# Altium integrated library TI Amplifiers and Linear Operational Amplifier Fully Differential Amplifier.IntLib: 262 symbols (part 2 of 11)
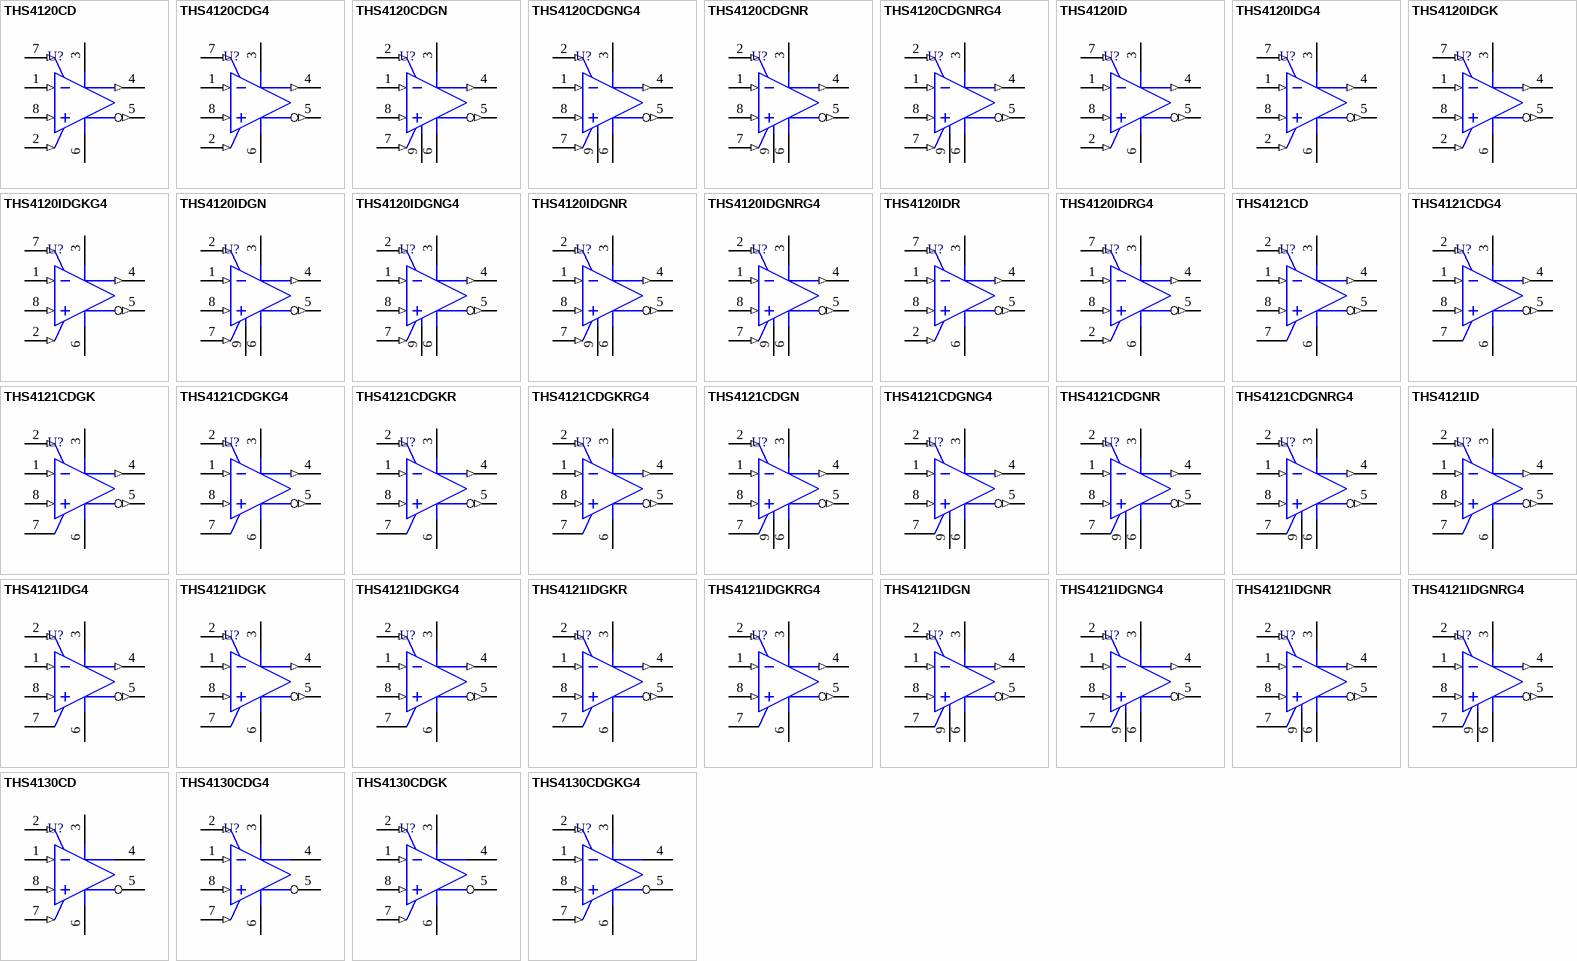
[diagram p8: symbols THS4120CD to THS4130CDGKG4]

## THS4121IDG4
designator U?
100 MHz, 43 V/us, Fully Differential CMOS Amplifier, 3 to 3.5 V, -40 to 85 degC, 8-pin SOIC (D8), Green (RoHS & no Sb/Br); Manufacturer: Texas Instruments; PartNumber: THS4121IDG4; 2nd Harmonic(dBc): 79; 3rd Harmonic(dBc): 93; @ MHz: 1; BW @ Acl(MHz): 100; Iq per channel(Max)(mA): 13.5; Offset Voltage Drift (+/-)(Max)(uV/Degrees Celsius: 25; Settling Time (0.1%)(Typ)(ns): 60; Slew Rate(Typ)(V/us): 55; SubFamily: Fully Differential Amplifier; THD (Fc is 1 MHz)(Typ)(dB): -75; Vio(Max)(mV): 8; Vn at Flatband(Typ)(nV/rtHz): 5.4; Vs(Max)(V): 3.5; Vs(Min)(V): 3; DatasheetVersion: SLOS319D; PackageVersion: 4040047-3/M, 06/2011; PackageReference: D8; PackageDescription: 8-Pin Plastic Small Outline, Body 4.9 x 3.9 mm, Pitch 1.27 mm; Supplier 1: Digi-Key; Supplier Part Number 1: THS4121IDG4-ND; Supplier 2: Newark; Supplier Part Number 2: 14M2281; Supplier 3: Mouser; Supplier Part Number 3: 595-THS4121IDG4; Eco-Plan: Green (RoHS & no Sb/Br); Io(Typ)(mA): 100; Number of Channels: 1; Mounting Technology: Surface Mount; Code_JEDEC: MS-012; ComponentLink1Description: Manufacturer URL; ComponentLink1URL: http://www.ti.com/; ComponentLink2Description: Datasheet; ComponentLink2URL: http://www.ti.com/general/docs/lit/getliterature.tsp?genericPartNumber=THS4121&fileType=pdf; ComponentLink3Description: Package Specification; ComponentLink3URL: http://www.ti.com/litv/pdf/msoi002j
footprint TI-D8_N (SOIC, 8-Leads, Body 4.9x3.9mm, Pitch 1.27mm, IPC Medium Density)
footprint TI-D8_L (SOIC, 8-Leads, Body 4.9x3.9mm, Pitch 1.27mm, IPC High Density)
footprint TI-D8_M (SOIC, 8-Leads, Body 4.9x3.9mm, Pitch 1.27mm, IPC Low Density)
pins: 1 VIN- (in), 2 VOCM (in), 3 VDD (power), 4 VOUT+ (out), 5 VOUT- (out), 6 GND (power), 7 NC, 8 VIN+ (in)

## THS4121IDGK
designator U?
100 MHz, 43 V/us, Fully Differential CMOS Amplifier, 3 to 3.5 V, -40 to 85 degC, 8-pin SOP (DGK8), Green (RoHS & no Sb/Br); Manufacturer: Texas Instruments; PartNumber: THS4121IDGK; 2nd Harmonic(dBc): 79; 3rd Harmonic(dBc): 93; @ MHz: 1; BW @ Acl(MHz): 100; Iq per channel(Max)(mA): 13.5; Offset Voltage Drift (+/-)(Max)(uV/Degrees Celsius: 25; Settling Time (0.1%)(Typ)(ns): 60; Slew Rate(Typ)(V/us): 55; SubFamily: Fully Differential Amplifier; THD (Fc is 1 MHz)(Typ)(dB): -75; Vio(Max)(mV): 8; Vn at Flatband(Typ)(nV/rtHz): 5.4; Vs(Max)(V): 3.5; Vs(Min)(V): 3; DatasheetVersion: SLOS319D; PackageVersion: 4073329/E, 05/2006; PackageReference: DGK8; PackageDescription: 8-Pin Thin Small Outline, Body 3 x 3 mm, Pitch 0.65 mm; Supplier 1: Digi-Key; Supplier Part Number 1: 296-17555-5-ND; Supplier 2: Newark; Supplier Part Number 2: 01J0839; Supplier 3: Mouser; Supplier Part Number 3: 595-THS4121IDGK; Eco-Plan: Green (RoHS & no Sb/Br); Io(Typ)(mA): 100; Number of Channels: 1; Mounting Technology: Surface Mount; Code_JEDEC: MO-187; ComponentLink1Description: Manufacturer URL; ComponentLink1URL: http://www.ti.com/; ComponentLink2Description: Datasheet; ComponentLink2URL: http://www.ti.com/general/docs/lit/getliterature.tsp?genericPartNumber=THS4121&fileType=pdf; ComponentLink3Description: Package Specification; ComponentLink3URL: http://www.ti.com/litv/pdf/mpds028d
footprint TI-DGK8_N (SOP, 8-Leads, Body 3x3mm, Pitch 0.65mm, IPC Medium Density)
footprint TI-DGK8_L (SOP, 8-Leads, Body 3x3mm, Pitch 0.65mm, IPC High Density)
footprint TI-DGK8_M (SOP, 8-Leads, Body 3x3mm, Pitch 0.65mm, IPC Low Density)
pins: 1 VIN- (in), 2 VOCM (in), 3 VDD (power), 4 VOUT+ (out), 5 VOUT- (out), 6 GND (power), 7 NC, 8 VIN+ (in)

## THS4121IDGKG4
designator U?
100 MHz, 43 V/us, Fully Differential CMOS Amplifier, 3 to 3.5 V, -40 to 85 degC, 8-pin SOP (DGK8), Green (RoHS & no Sb/Br); Manufacturer: Texas Instruments; PartNumber: THS4121IDGKG4; 2nd Harmonic(dBc): 79; 3rd Harmonic(dBc): 93; @ MHz: 1; BW @ Acl(MHz): 100; Iq per channel(Max)(mA): 13.5; Offset Voltage Drift (+/-)(Max)(uV/Degrees Celsius: 25; Settling Time (0.1%)(Typ)(ns): 60; Slew Rate(Typ)(V/us): 55; SubFamily: Fully Differential Amplifier; THD (Fc is 1 MHz)(Typ)(dB): -75; Vio(Max)(mV): 8; Vn at Flatband(Typ)(nV/rtHz): 5.4; Vs(Max)(V): 3.5; Vs(Min)(V): 3; DatasheetVersion: SLOS319D; PackageVersion: 4073329/E, 05/2006; PackageReference: DGK8; PackageDescription: 8-Pin Thin Small Outline, Body 3 x 3 mm, Pitch 0.65 mm; Supplier 1: Digi-Key; Supplier Part Number 1: THS4121IDGKG4-ND; Supplier 2: Mouser; Supplier Part Number 2: 595-THS4121IDGKG4; Eco-Plan: Green (RoHS & no Sb/Br); Io(Typ)(mA): 100; Number of Channels: 1; Mounting Technology: Surface Mount; Code_JEDEC: MO-187; ComponentLink1Description: Manufacturer URL; ComponentLink1URL: http://www.ti.com/; ComponentLink2Description: Datasheet; ComponentLink2URL: http://www.ti.com/general/docs/lit/getliterature.tsp?genericPartNumber=THS4121&fileType=pdf; ComponentLink3Description: Package Specification; ComponentLink3URL: http://www.ti.com/litv/pdf/mpds028d
footprint TI-DGK8_N (SOP, 8-Leads, Body 3x3mm, Pitch 0.65mm, IPC Medium Density)
footprint TI-DGK8_L (SOP, 8-Leads, Body 3x3mm, Pitch 0.65mm, IPC High Density)
footprint TI-DGK8_M (SOP, 8-Leads, Body 3x3mm, Pitch 0.65mm, IPC Low Density)
pins: 1 VIN- (in), 2 VOCM (in), 3 VDD (power), 4 VOUT+ (out), 5 VOUT- (out), 6 GND (power), 7 NC, 8 VIN+ (in)

## THS4121IDGKR
designator U?
100 MHz, 43 V/us, Fully Differential CMOS Amplifier, 3 to 3.5 V, -40 to 85 degC, 8-pin SOP (DGK8), Green (RoHS & no Sb/Br); Manufacturer: Texas Instruments; PartNumber: THS4121IDGKR; 2nd Harmonic(dBc): 79; 3rd Harmonic(dBc): 93; @ MHz: 1; BW @ Acl(MHz): 100; Iq per channel(Max)(mA): 13.5; Offset Voltage Drift (+/-)(Max)(uV/Degrees Celsius: 25; Settling Time (0.1%)(Typ)(ns): 60; Slew Rate(Typ)(V/us): 55; SubFamily: Fully Differential Amplifier; THD (Fc is 1 MHz)(Typ)(dB): -75; Vio(Max)(mV): 8; Vn at Flatband(Typ)(nV/rtHz): 5.4; Vs(Max)(V): 3.5; Vs(Min)(V): 3; DatasheetVersion: SLOS319D; PackageVersion: 4073329/E, 05/2006; PackageReference: DGK8; PackageDescription: 8-Pin Thin Small Outline, Body 3 x 3 mm, Pitch 0.65 mm; Supplier 1: Digi-Key; Supplier Part Number 1: THS4121IDGKR-ND; Supplier 2: Newark; Supplier Part Number 2: 01J0840; Supplier 3: Mouser; Supplier Part Number 3: 595-THS4121IDGKR; Eco-Plan: Green (RoHS & no Sb/Br); Io(Typ)(mA): 100; Number of Channels: 1; Mounting Technology: Surface Mount; Code_JEDEC: MO-187; ComponentLink1Description: Manufacturer URL; ComponentLink1URL: http://www.ti.com/; ComponentLink2Description: Datasheet; ComponentLink2URL: http://www.ti.com/general/docs/lit/getliterature.tsp?genericPartNumber=THS4121&fileType=pdf; ComponentLink3Description: Package Specification; ComponentLink3URL: http://www.ti.com/litv/pdf/mpds028d
footprint TI-DGK8_N (SOP, 8-Leads, Body 3x3mm, Pitch 0.65mm, IPC Medium Density)
footprint TI-DGK8_L (SOP, 8-Leads, Body 3x3mm, Pitch 0.65mm, IPC High Density)
footprint TI-DGK8_M (SOP, 8-Leads, Body 3x3mm, Pitch 0.65mm, IPC Low Density)
pins: 1 VIN- (in), 2 VOCM (in), 3 VDD (power), 4 VOUT+ (out), 5 VOUT- (out), 6 GND (power), 7 NC, 8 VIN+ (in)

## THS4121IDGKRG4
designator U?
100 MHz, 43 V/us, Fully Differential CMOS Amplifier, 3 to 3.5 V, -40 to 85 degC, 8-pin SOP (DGK8), Green (RoHS & no Sb/Br); Manufacturer: Texas Instruments; PartNumber: THS4121IDGKRG4; 2nd Harmonic(dBc): 79; 3rd Harmonic(dBc): 93; @ MHz: 1; BW @ Acl(MHz): 100; Iq per channel(Max)(mA): 13.5; Offset Voltage Drift (+/-)(Max)(uV/Degrees Celsius: 25; Settling Time (0.1%)(Typ)(ns): 60; Slew Rate(Typ)(V/us): 55; SubFamily: Fully Differential Amplifier; THD (Fc is 1 MHz)(Typ)(dB): -75; Vio(Max)(mV): 8; Vn at Flatband(Typ)(nV/rtHz): 5.4; Vs(Max)(V): 3.5; Vs(Min)(V): 3; DatasheetVersion: SLOS319D; PackageVersion: 4073329/E, 05/2006; PackageReference: DGK8; PackageDescription: 8-Pin Thin Small Outline, Body 3 x 3 mm, Pitch 0.65 mm; Supplier 1: Digi-Key; Supplier Part Number 1: THS4121IDGKRG4-ND; Supplier 2: Mouser; Supplier Part Number 2: 595-THS4121IDGKRG4; Eco-Plan: Green (RoHS & no Sb/Br); Io(Typ)(mA): 100; Number of Channels: 1; Mounting Technology: Surface Mount; Code_JEDEC: MO-187; ComponentLink1Description: Manufacturer URL; ComponentLink1URL: http://www.ti.com/; ComponentLink2Description: Datasheet; ComponentLink2URL: http://www.ti.com/general/docs/lit/getliterature.tsp?genericPartNumber=THS4121&fileType=pdf; ComponentLink3Description: Package Specification; ComponentLink3URL: http://www.ti.com/litv/pdf/mpds028d
footprint TI-DGK8_N (SOP, 8-Leads, Body 3x3mm, Pitch 0.65mm, IPC Medium Density)
footprint TI-DGK8_L (SOP, 8-Leads, Body 3x3mm, Pitch 0.65mm, IPC High Density)
footprint TI-DGK8_M (SOP, 8-Leads, Body 3x3mm, Pitch 0.65mm, IPC Low Density)
pins: 1 VIN- (in), 2 VOCM (in), 3 VDD (power), 4 VOUT+ (out), 5 VOUT- (out), 6 GND (power), 7 NC, 8 VIN+ (in)

## THS4121IDGN
designator U?
100 MHz, 43 V/us, Fully Differential CMOS Amplifier, 3 to 3.5 V, -40 to 85 degC, 8-pin SOP (DGN8), Green (RoHS & no Sb/Br); Manufacturer: Texas Instruments; PartNumber: THS4121IDGN; 2nd Harmonic(dBc): 79; 3rd Harmonic(dBc): 93; @ MHz: 1; BW @ Acl(MHz): 100; Iq per channel(Max)(mA): 13.5; Offset Voltage Drift (+/-)(Max)(uV/Degrees Celsius: 25; Settling Time (0.1%)(Typ)(ns): 60; Slew Rate(Typ)(V/us): 55; SubFamily: Fully Differential Amplifier; THD (Fc is 1 MHz)(Typ)(dB): -75; Vio(Max)(mV): 8; Vn at Flatband(Typ)(nV/rtHz): 5.4; Vs(Max)(V): 3.5; Vs(Min)(V): 3; DatasheetVersion: SLOS319D; PackageVersion: 4073271/F, 05/2011; PackageReference: DGN8-1760X1425TP; PackageDescription: 8-Pin Plastic Small Outline, Body 3 x 3 mm, Pitch 0.65 mm; Supplier 1: Digi-Key; Supplier Part Number 1: THS4121IDGN-ND; Supplier 2: Mouser; Supplier Part Number 2: 595-THS4121IDGN; Eco-Plan: Green (RoHS & no Sb/Br); Io(Typ)(mA): 100; Number of Channels: 1; Mounting Technology: Surface Mount; Code_JEDEC: MO-187; ComponentLink1Description: Manufacturer URL; ComponentLink1URL: http://www.ti.com/; ComponentLink2Description: Datasheet; ComponentLink2URL: http://www.ti.com/general/docs/lit/getliterature.tsp?genericPartNumber=THS4121&fileType=pdf; ComponentLink3Description: Package Specification; ComponentLink3URL: http://www.ti.com/litv/pdf/mpds046e
footprint TI-DGN8-1760X1425TP_N (SOP, 8-Leads, Body 3x3mm, Pitch 0.65mm, Thermal Pad 1.76x1.425mm, IPC Medium Density)
footprint TI-DGN8-1760X1425TP_L (SOP, 8-Leads, Body 3x3mm, Pitch 0.65mm, Thermal Pad 1.76x1.425mm, IPC High Density)
footprint TI-DGN8-1760X1425TP_M (SOP, 8-Leads, Body 3x3mm, Pitch 0.65mm, Thermal Pad 1.76 x 1.425 mm, IPC Low Density)
pins: 1 VIN- (in), 2 VOCM (in), 3 VDD (power), 4 VOUT+ (out), 5 VOUT- (out), 6 GND (power), 7 NC, 8 VIN+ (in), 9 EP

## THS4121IDGNG4
designator U?
100 MHz, 43 V/us, Fully Differential CMOS Amplifier, 3 to 3.5 V, -40 to 85 degC, 8-pin SOP (DGN8), Green (RoHS & no Sb/Br); Manufacturer: Texas Instruments; PartNumber: THS4121IDGNG4; 2nd Harmonic(dBc): 79; 3rd Harmonic(dBc): 93; @ MHz: 1; BW @ Acl(MHz): 100; Iq per channel(Max)(mA): 13.5; Offset Voltage Drift (+/-)(Max)(uV/Degrees Celsius: 25; Settling Time (0.1%)(Typ)(ns): 60; Slew Rate(Typ)(V/us): 55; SubFamily: Fully Differential Amplifier; THD (Fc is 1 MHz)(Typ)(dB): -75; Vio(Max)(mV): 8; Vn at Flatband(Typ)(nV/rtHz): 5.4; Vs(Max)(V): 3.5; Vs(Min)(V): 3; DatasheetVersion: SLOS319D; PackageVersion: 4073271/F, 05/2011; PackageReference: DGN8-1760X1425TP; PackageDescription: 8-Pin Plastic Small Outline, Body 3 x 3 mm, Pitch 0.65 mm; Supplier 1: Digi-Key; Supplier Part Number 1: THS4121IDGNG4-ND; Supplier 2: Mouser; Supplier Part Number 2: 595-THS4121IDGNG4; Eco-Plan: Green (RoHS & no Sb/Br); Io(Typ)(mA): 100; Number of Channels: 1; Mounting Technology: Surface Mount; Code_JEDEC: MO-187; ComponentLink1Description: Manufacturer URL; ComponentLink1URL: http://www.ti.com/; ComponentLink2Description: Datasheet; ComponentLink2URL: http://www.ti.com/general/docs/lit/getliterature.tsp?genericPartNumber=THS4121&fileType=pdf; ComponentLink3Description: Package Specification; ComponentLink3URL: http://www.ti.com/litv/pdf/mpds046e
footprint TI-DGN8-1760X1425TP_N (SOP, 8-Leads, Body 3x3mm, Pitch 0.65mm, Thermal Pad 1.76x1.425mm, IPC Medium Density)
footprint TI-DGN8-1760X1425TP_L (SOP, 8-Leads, Body 3x3mm, Pitch 0.65mm, Thermal Pad 1.76x1.425mm, IPC High Density)
footprint TI-DGN8-1760X1425TP_M (SOP, 8-Leads, Body 3x3mm, Pitch 0.65mm, Thermal Pad 1.76 x 1.425 mm, IPC Low Density)
pins: 1 VIN- (in), 2 VOCM (in), 3 VDD (power), 4 VOUT+ (out), 5 VOUT- (out), 6 GND (power), 7 NC, 8 VIN+ (in), 9 EP

## THS4121IDGNR
designator U?
100 MHz, 43 V/us, Fully Differential CMOS Amplifier, 3 to 3.5 V, -40 to 85 degC, 8-pin SOP (DGN8), Green (RoHS & no Sb/Br); Manufacturer: Texas Instruments; PartNumber: THS4121IDGNR; 2nd Harmonic(dBc): 79; 3rd Harmonic(dBc): 93; @ MHz: 1; BW @ Acl(MHz): 100; Iq per channel(Max)(mA): 13.5; Offset Voltage Drift (+/-)(Max)(uV/Degrees Celsius: 25; Settling Time (0.1%)(Typ)(ns): 60; Slew Rate(Typ)(V/us): 55; SubFamily: Fully Differential Amplifier; THD (Fc is 1 MHz)(Typ)(dB): -75; Vio(Max)(mV): 8; Vn at Flatband(Typ)(nV/rtHz): 5.4; Vs(Max)(V): 3.5; Vs(Min)(V): 3; DatasheetVersion: SLOS319D; PackageVersion: 4073271/F, 05/2011; PackageReference: DGN8-1760X1425TP; PackageDescription: 8-Pin Plastic Small Outline, Body 3 x 3 mm, Pitch 0.65 mm; Supplier 1: Digi-Key; Supplier Part Number 1: 296-13343-2-ND; Supplier 2: Digi-Key; Supplier Part Number 2: 296-13343-1-ND; Supplier 3: Digi-Key; Supplier Part Number 3: 296-13343-6-ND; Supplier 4: Newark; Supplier Part Number 4: 76C6400; Supplier 5: Mouser; Supplier Part Number 5: 595-THS4121IDGNR; Eco-Plan: Green (RoHS & no Sb/Br); Io(Typ)(mA): 100; Number of Channels: 1; Mounting Technology: Surface Mount; Code_JEDEC: MO-187; ComponentLink1Description: Manufacturer URL; ComponentLink1URL: http://www.ti.com/; ComponentLink2Description: Datasheet; ComponentLink2URL: http://www.ti.com/general/docs/lit/getliterature.tsp?genericPartNumber=THS4121&fileType=pdf; ComponentLink3Description: Package Specification; ComponentLink3URL: http://www.ti.com/litv/pdf/mpds046e
footprint TI-DGN8-1760X1425TP_N (SOP, 8-Leads, Body 3x3mm, Pitch 0.65mm, Thermal Pad 1.76x1.425mm, IPC Medium Density)
footprint TI-DGN8-1760X1425TP_L (SOP, 8-Leads, Body 3x3mm, Pitch 0.65mm, Thermal Pad 1.76x1.425mm, IPC High Density)
footprint TI-DGN8-1760X1425TP_M (SOP, 8-Leads, Body 3x3mm, Pitch 0.65mm, Thermal Pad 1.76 x 1.425 mm, IPC Low Density)
pins: 1 VIN- (in), 2 VOCM (in), 3 VDD (power), 4 VOUT+ (out), 5 VOUT- (out), 6 GND (power), 7 NC, 8 VIN+ (in), 9 EP

## THS4121IDGNRG4
designator U?
100 MHz, 43 V/us, Fully Differential CMOS Amplifier, 3 to 3.5 V, -40 to 85 degC, 8-pin SOP (DGN8), Green (RoHS & no Sb/Br); Manufacturer: Texas Instruments; PartNumber: THS4121IDGNRG4; 2nd Harmonic(dBc): 79; 3rd Harmonic(dBc): 93; @ MHz: 1; BW @ Acl(MHz): 100; Iq per channel(Max)(mA): 13.5; Offset Voltage Drift (+/-)(Max)(uV/Degrees Celsius: 25; Settling Time (0.1%)(Typ)(ns): 60; Slew Rate(Typ)(V/us): 55; SubFamily: Fully Differential Amplifier; THD (Fc is 1 MHz)(Typ)(dB): -75; Vio(Max)(mV): 8; Vn at Flatband(Typ)(nV/rtHz): 5.4; Vs(Max)(V): 3.5; Vs(Min)(V): 3; DatasheetVersion: SLOS319D; PackageVersion: 4073271/F, 05/2011; PackageReference: DGN8-1760X1425TP; PackageDescription: 8-Pin Plastic Small Outline, Body 3 x 3 mm, Pitch 0.65 mm; Supplier 1: Digi-Key; Supplier Part Number 1: THS4121IDGNRG4-ND; Supplier 2: Mouser; Supplier Part Number 2: 595-THS4121IDGNRG4; Eco-Plan: Green (RoHS & no Sb/Br); Io(Typ)(mA): 100; Number of Channels: 1; Mounting Technology: Surface Mount; Code_JEDEC: MO-187; ComponentLink1Description: Manufacturer URL; ComponentLink1URL: http://www.ti.com/; ComponentLink2Description: Datasheet; ComponentLink2URL: http://www.ti.com/general/docs/lit/getliterature.tsp?genericPartNumber=THS4121&fileType=pdf; ComponentLink3Description: Package Specification; ComponentLink3URL: http://www.ti.com/litv/pdf/mpds046e
footprint TI-DGN8-1760X1425TP_N (SOP, 8-Leads, Body 3x3mm, Pitch 0.65mm, Thermal Pad 1.76x1.425mm, IPC Medium Density)
footprint TI-DGN8-1760X1425TP_L (SOP, 8-Leads, Body 3x3mm, Pitch 0.65mm, Thermal Pad 1.76x1.425mm, IPC High Density)
footprint TI-DGN8-1760X1425TP_M (SOP, 8-Leads, Body 3x3mm, Pitch 0.65mm, Thermal Pad 1.76 x 1.425 mm, IPC Low Density)
pins: 1 VIN- (in), 2 VOCM (in), 3 VDD (power), 4 VOUT+ (out), 5 VOUT- (out), 6 GND (power), 7 NC, 8 VIN+ (in), 9 EP

## THS4130CD
designator U?
Fully Differential Input / Output Low Noise Amplifier with Shutdown, 5 to 30 V, 0 to 70 degC, 8-pin SOIC (D8), Green (RoHS & no Sb/Br); Manufacturer: Texas Instruments; PartNumber: THS4130CD; 2nd Harmonic(dBc): 88; 3rd Harmonic(dBc): 82; @ MHz: 1; BW @ Acl(MHz): 150; Io(Typ)(mA): 85; Iq per channel(Max)(mA): 16; Offset Voltage Drift (+/-)(Max)(uV/Degrees Celsius: 4.5; Settling Time (0.1%)(Typ)(ns): 78; Slew Rate(Typ)(V/us): 52; SubFamily: Fully Differential Amplifier; THD (Fc is 1 MHz)(Typ)(dB): -80; Vio(Max)(mV): 2; Vn at Flatband(Typ)(nV/rtHz): 1.3; Vs(Max)(V): 30; Vs(Min)(V): 5; DatasheetVersion: SLOS318H; PackageVersion: 4040047-3/M, 06/2011; PackageReference: D8; PackageDescription: 8-Pin Plastic Small Outline, Body 4.9 x 3.9 mm, Pitch 1.27 mm; Supplier 1: Digi-Key; Supplier Part Number 1: 296-28162-ND; Supplier 2: Farnell; Supplier Part Number 2: 1459436; Supplier 3: Newark; Supplier Part Number 3: 62M0365; Supplier 4: Mouser; Supplier Part Number 4: 595-THS4130CD; Eco-Plan: Green (RoHS & no Sb/Br); Number of Channels: 1; Mounting Technology: Surface Mount; Code_JEDEC: MS-012; ComponentLink1Description: Manufacturer URL; ComponentLink1URL: http://www.ti.com/; ComponentLink2Description: Datasheet; ComponentLink2URL: http://www.ti.com/general/docs/lit/getliterature.tsp?genericPartNumber=THS4130&fileType=pdf; ComponentLink3Description: Package Specification; ComponentLink3URL: http://www.ti.com/litv/pdf/msoi002j
footprint TI-D8_N (SOIC, 8-Leads, Body 4.9x3.9mm, Pitch 1.27mm, IPC Medium Density)
footprint TI-D8_L (SOIC, 8-Leads, Body 4.9x3.9mm, Pitch 1.27mm, IPC High Density)
footprint TI-D8_M (SOIC, 8-Leads, Body 4.9x3.9mm, Pitch 1.27mm, IPC Low Density)
pins: 1 VIN- (in), 2 VOCM (in), 3 VCC+ (power), 4 VOUT+ (hiz), 5 VOUT- (hiz), 6 VCC- (power), 7 ~{PD} (in), 8 VIN+ (in)

## THS4130CDG4
designator U?
Fully Differential Input / Output Low Noise Amplifier with Shutdown, 5 to 30 V, 0 to 70 degC, 8-pin SOIC (D8), Green (RoHS & no Sb/Br); Manufacturer: Texas Instruments; PartNumber: THS4130CDG4; 2nd Harmonic(dBc): 88; 3rd Harmonic(dBc): 82; @ MHz: 1; BW @ Acl(MHz): 150; Io(Typ)(mA): 85; Iq per channel(Max)(mA): 16; Offset Voltage Drift (+/-)(Max)(uV/Degrees Celsius: 4.5; Settling Time (0.1%)(Typ)(ns): 78; Slew Rate(Typ)(V/us): 52; SubFamily: Fully Differential Amplifier; THD (Fc is 1 MHz)(Typ)(dB): -80; Vio(Max)(mV): 2; Vn at Flatband(Typ)(nV/rtHz): 1.3; Vs(Max)(V): 30; Vs(Min)(V): 5; DatasheetVersion: SLOS318H; PackageVersion: 4040047-3/M, 06/2011; PackageReference: D8; PackageDescription: 8-Pin Plastic Small Outline, Body 4.9 x 3.9 mm, Pitch 1.27 mm; Supplier 1: Digi-Key; Supplier Part Number 1: THS4130CDG4-ND; Supplier 2: Newark; Supplier Part Number 2: 54K0757; Supplier 3: Mouser; Supplier Part Number 3: 595-THS4130CDG4; Eco-Plan: Green (RoHS & no Sb/Br); Number of Channels: 1; Mounting Technology: Surface Mount; Code_JEDEC: MS-012; ComponentLink1Description: Manufacturer URL; ComponentLink1URL: http://www.ti.com/; ComponentLink2Description: Datasheet; ComponentLink2URL: http://www.ti.com/general/docs/lit/getliterature.tsp?genericPartNumber=THS4130&fileType=pdf; ComponentLink3Description: Package Specification; ComponentLink3URL: http://www.ti.com/litv/pdf/msoi002j
footprint TI-D8_N (SOIC, 8-Leads, Body 4.9x3.9mm, Pitch 1.27mm, IPC Medium Density)
footprint TI-D8_L (SOIC, 8-Leads, Body 4.9x3.9mm, Pitch 1.27mm, IPC High Density)
footprint TI-D8_M (SOIC, 8-Leads, Body 4.9x3.9mm, Pitch 1.27mm, IPC Low Density)
pins: 1 VIN- (in), 2 VOCM (in), 3 VCC+ (power), 4 VOUT+ (hiz), 5 VOUT- (hiz), 6 VCC- (power), 7 ~{PD} (in), 8 VIN+ (in)

## THS4130CDGK
designator U?
Fully Differential Input / Output Low Noise Amplifier with Shutdown, 5 to 30 V, 0 to 70 degC, 8-pin SOP (DGK8), Green (RoHS & no Sb/Br); Manufacturer: Texas Instruments; PartNumber: THS4130CDGK; 2nd Harmonic(dBc): 88; 3rd Harmonic(dBc): 82; @ MHz: 1; BW @ Acl(MHz): 150; Io(Typ)(mA): 85; Iq per channel(Max)(mA): 16; Offset Voltage Drift (+/-)(Max)(uV/Degrees Celsius: 4.5; Settling Time (0.1%)(Typ)(ns): 78; Slew Rate(Typ)(V/us): 52; SubFamily: Fully Differential Amplifier; THD (Fc is 1 MHz)(Typ)(dB): -80; Vio(Max)(mV): 2; Vn at Flatband(Typ)(nV/rtHz): 1.3; Vs(Max)(V): 30; Vs(Min)(V): 5; DatasheetVersion: SLOS318H; PackageVersion: 4073329/E, 05/2006; PackageReference: DGK8; PackageDescription: 8-Pin Thin Small Outline, Body 3 x 3 mm, Pitch 0.65 mm; Supplier 1: Digi-Key; Supplier Part Number 1: 296-34214-5-ND; Supplier 2: Newark; Supplier Part Number 2: 01J0841; Supplier 3: Mouser; Supplier Part Number 3: 595-THS4130CDGK; Eco-Plan: Green (RoHS & no Sb/Br); Number of Channels: 1; Mounting Technology: Surface Mount; Code_JEDEC: MO-187; ComponentLink1Description: Manufacturer URL; ComponentLink1URL: http://www.ti.com/; ComponentLink2Description: Datasheet; ComponentLink2URL: http://www.ti.com/general/docs/lit/getliterature.tsp?genericPartNumber=THS4130&fileType=pdf; ComponentLink3Description: Package Specification; ComponentLink3URL: http://www.ti.com/litv/pdf/mpds028d
footprint TI-DGK8_N (SOP, 8-Leads, Body 3x3mm, Pitch 0.65mm, IPC Medium Density)
footprint TI-DGK8_L (SOP, 8-Leads, Body 3x3mm, Pitch 0.65mm, IPC High Density)
footprint TI-DGK8_M (SOP, 8-Leads, Body 3x3mm, Pitch 0.65mm, IPC Low Density)
pins: 1 VIN- (in), 2 VOCM (in), 3 VCC+ (power), 4 VOUT+ (hiz), 5 VOUT- (hiz), 6 VCC- (power), 7 ~{PD} (in), 8 VIN+ (in)

## THS4130CDGKG4
designator U?
Fully Differential Input / Output Low Noise Amplifier with Shutdown, 5 to 30 V, 0 to 70 degC, 8-pin SOP (DGK8), Green (RoHS & no Sb/Br); Manufacturer: Texas Instruments; PartNumber: THS4130CDGKG4; 2nd Harmonic(dBc): 88; 3rd Harmonic(dBc): 82; @ MHz: 1; BW @ Acl(MHz): 150; Io(Typ)(mA): 85; Iq per channel(Max)(mA): 16; Offset Voltage Drift (+/-)(Max)(uV/Degrees Celsius: 4.5; Settling Time (0.1%)(Typ)(ns): 78; Slew Rate(Typ)(V/us): 52; SubFamily: Fully Differential Amplifier; THD (Fc is 1 MHz)(Typ)(dB): -80; Vio(Max)(mV): 2; Vn at Flatband(Typ)(nV/rtHz): 1.3; Vs(Max)(V): 30; Vs(Min)(V): 5; DatasheetVersion: SLOS318H; PackageVersion: 4073329/E, 05/2006; PackageReference: DGK8; PackageDescription: 8-Pin Thin Small Outline, Body 3 x 3 mm, Pitch 0.65 mm; Supplier 1: Digi-Key; Supplier Part Number 1: THS4130CDGKG4-ND; Supplier 2: Mouser; Supplier Part Number 2: 595-THS4130CDGKG4; Eco-Plan: Green (RoHS & no Sb/Br); Number of Channels: 1; Mounting Technology: Surface Mount; Code_JEDEC: MO-187; ComponentLink1Description: Manufacturer URL; ComponentLink1URL: http://www.ti.com/; ComponentLink2Description: Datasheet; ComponentLink2URL: http://www.ti.com/general/docs/lit/getliterature.tsp?genericPartNumber=THS4130&fileType=pdf; ComponentLink3Description: Package Specification; ComponentLink3URL: http://www.ti.com/litv/pdf/mpds028d
footprint TI-DGK8_N (SOP, 8-Leads, Body 3x3mm, Pitch 0.65mm, IPC Medium Density)
footprint TI-DGK8_L (SOP, 8-Leads, Body 3x3mm, Pitch 0.65mm, IPC High Density)
footprint TI-DGK8_M (SOP, 8-Leads, Body 3x3mm, Pitch 0.65mm, IPC Low Density)
pins: 1 VIN- (in), 2 VOCM (in), 3 VCC+ (power), 4 VOUT+ (hiz), 5 VOUT- (hiz), 6 VCC- (power), 7 ~{PD} (in), 8 VIN+ (in)

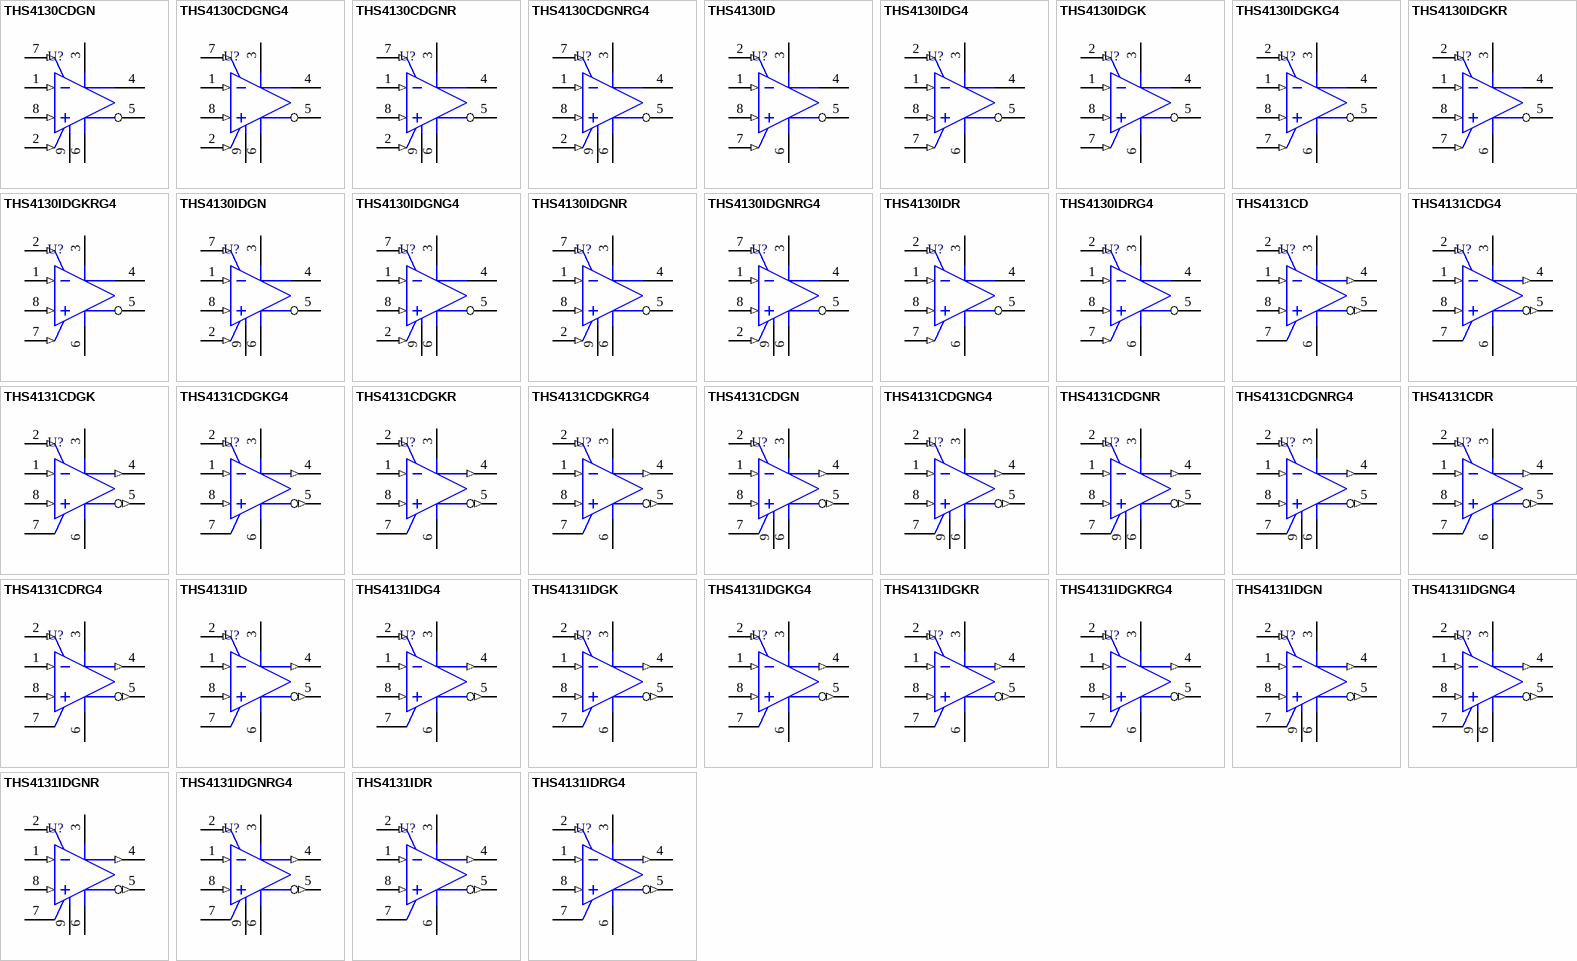
[diagram p1: symbols THS4130CDGN to THS4131IDRG4]

## THS4130CDGN
designator U?
Fully Differential Input / Output Low Noise Amplifier with Shutdown, 5 to 30 V, 0 to 70 degC, 8-pin SOP (DGN8), Green (RoHS & no Sb/Br); Manufacturer: Texas Instruments; PartNumber: THS4130CDGN; 2nd Harmonic(dBc): 88; 3rd Harmonic(dBc): 82; @ MHz: 1; BW @ Acl(MHz): 150; Io(Typ)(mA): 85; Iq per channel(Max)(mA): 16; Offset Voltage Drift (+/-)(Max)(uV/Degrees Celsius: 4.5; Settling Time (0.1%)(Typ)(ns): 78; Slew Rate(Typ)(V/us): 52; SubFamily: Fully Differential Amplifier; THD (Fc is 1 MHz)(Typ)(dB): -80; Vio(Max)(mV): 2; Vn at Flatband(Typ)(nV/rtHz): 1.3; Vs(Max)(V): 30; Vs(Min)(V): 5; DatasheetVersion: SLOS318H; PackageVersion: 4073271/F, 05/2011; PackageReference: DGN8-1760X1425TP; PackageDescription: 8-Pin Plastic Small Outline, Body 3 x 3 mm, Pitch 0.65 mm; Supplier 1: Digi-Key; Supplier Part Number 1: 296-34215-5-ND; Supplier 2: Newark; Supplier Part Number 2: 76C6402; Supplier 3: Mouser; Supplier Part Number 3: 595-THS4130CDGN; Eco-Plan: Green (RoHS & no Sb/Br); Number of Channels: 1; Mounting Technology: Surface Mount; Code_JEDEC: MO-187; ComponentLink1Description: Manufacturer URL; ComponentLink1URL: http://www.ti.com/; ComponentLink2Description: Datasheet; ComponentLink2URL: http://www.ti.com/general/docs/lit/getliterature.tsp?genericPartNumber=THS4130&fileType=pdf; ComponentLink3Description: Package Specification; ComponentLink3URL: http://www.ti.com/litv/pdf/mpds046e
footprint TI-DGN8-1760X1425TP_N (SOP, 8-Leads, Body 3x3mm, Pitch 0.65mm, Thermal Pad 1.76x1.425mm, IPC Medium Density)
footprint TI-DGN8-1760X1425TP_L (SOP, 8-Leads, Body 3x3mm, Pitch 0.65mm, Thermal Pad 1.76x1.425mm, IPC High Density)
footprint TI-DGN8-1760X1425TP_M (SOP, 8-Leads, Body 3x3mm, Pitch 0.65mm, Thermal Pad 1.76 x 1.425 mm, IPC Low Density)
pins: 1 VIN- (in), 2 VOCM (in), 3 VCC+ (power), 4 VOUT+ (hiz), 5 VOUT- (hiz), 6 VCC- (power), 7 ~{PD} (in), 8 VIN+ (in), 9 EP

## THS4130CDGNG4
designator U?
Fully Differential Input / Output Low Noise Amplifier with Shutdown, 5 to 30 V, 0 to 70 degC, 8-pin SOP (DGN8), Green (RoHS & no Sb/Br); Manufacturer: Texas Instruments; PartNumber: THS4130CDGNG4; 2nd Harmonic(dBc): 88; 3rd Harmonic(dBc): 82; @ MHz: 1; BW @ Acl(MHz): 150; Io(Typ)(mA): 85; Iq per channel(Max)(mA): 16; Offset Voltage Drift (+/-)(Max)(uV/Degrees Celsius: 4.5; Settling Time (0.1%)(Typ)(ns): 78; Slew Rate(Typ)(V/us): 52; SubFamily: Fully Differential Amplifier; THD (Fc is 1 MHz)(Typ)(dB): -80; Vio(Max)(mV): 2; Vn at Flatband(Typ)(nV/rtHz): 1.3; Vs(Max)(V): 30; Vs(Min)(V): 5; DatasheetVersion: SLOS318H; PackageVersion: 4073271/F, 05/2011; PackageReference: DGN8-1760X1425TP; PackageDescription: 8-Pin Plastic Small Outline, Body 3 x 3 mm, Pitch 0.65 mm; Supplier 1: Digi-Key; Supplier Part Number 1: THS4130CDGNG4-ND; Supplier 2: Mouser; Supplier Part Number 2: 595-THS4130CDGNG4; Eco-Plan: Green (RoHS & no Sb/Br); Number of Channels: 1; Mounting Technology: Surface Mount; Code_JEDEC: MO-187; ComponentLink1Description: Manufacturer URL; ComponentLink1URL: http://www.ti.com/; ComponentLink2Description: Datasheet; ComponentLink2URL: http://www.ti.com/general/docs/lit/getliterature.tsp?genericPartNumber=THS4130&fileType=pdf; ComponentLink3Description: Package Specification; ComponentLink3URL: http://www.ti.com/litv/pdf/mpds046e
footprint TI-DGN8-1760X1425TP_N (SOP, 8-Leads, Body 3x3mm, Pitch 0.65mm, Thermal Pad 1.76x1.425mm, IPC Medium Density)
footprint TI-DGN8-1760X1425TP_L (SOP, 8-Leads, Body 3x3mm, Pitch 0.65mm, Thermal Pad 1.76x1.425mm, IPC High Density)
footprint TI-DGN8-1760X1425TP_M (SOP, 8-Leads, Body 3x3mm, Pitch 0.65mm, Thermal Pad 1.76 x 1.425 mm, IPC Low Density)
pins: 1 VIN- (in), 2 VOCM (in), 3 VCC+ (power), 4 VOUT+ (hiz), 5 VOUT- (hiz), 6 VCC- (power), 7 ~{PD} (in), 8 VIN+ (in), 9 EP

## THS4130CDGNR
designator U?
Fully Differential Input / Output Low Noise Amplifier with Shutdown, 5 to 30 V, 0 to 70 degC, 8-pin SOP (DGN8), Green (RoHS & no Sb/Br); Manufacturer: Texas Instruments; PartNumber: THS4130CDGNR; 2nd Harmonic(dBc): 88; 3rd Harmonic(dBc): 82; @ MHz: 1; BW @ Acl(MHz): 150; Io(Typ)(mA): 85; Iq per channel(Max)(mA): 16; Offset Voltage Drift (+/-)(Max)(uV/Degrees Celsius: 4.5; Settling Time (0.1%)(Typ)(ns): 78; Slew Rate(Typ)(V/us): 52; SubFamily: Fully Differential Amplifier; THD (Fc is 1 MHz)(Typ)(dB): -80; Vio(Max)(mV): 2; Vn at Flatband(Typ)(nV/rtHz): 1.3; Vs(Max)(V): 30; Vs(Min)(V): 5; DatasheetVersion: SLOS318H; PackageVersion: 4073271/F, 05/2011; PackageReference: DGN8-1760X1425TP; PackageDescription: 8-Pin Plastic Small Outline, Body 3 x 3 mm, Pitch 0.65 mm; Supplier 1: Digi-Key; Supplier Part Number 1: THS4130CDGNR-ND; Supplier 2: Mouser; Supplier Part Number 2: 595-THS4130CDGNR; Eco-Plan: Green (RoHS & no Sb/Br); Number of Channels: 1; Mounting Technology: Surface Mount; Code_JEDEC: MO-187; ComponentLink1Description: Manufacturer URL; ComponentLink1URL: http://www.ti.com/; ComponentLink2Description: Datasheet; ComponentLink2URL: http://www.ti.com/general/docs/lit/getliterature.tsp?genericPartNumber=THS4130&fileType=pdf; ComponentLink3Description: Package Specification; ComponentLink3URL: http://www.ti.com/litv/pdf/mpds046e
footprint TI-DGN8-1760X1425TP_N (SOP, 8-Leads, Body 3x3mm, Pitch 0.65mm, Thermal Pad 1.76x1.425mm, IPC Medium Density)
footprint TI-DGN8-1760X1425TP_L (SOP, 8-Leads, Body 3x3mm, Pitch 0.65mm, Thermal Pad 1.76x1.425mm, IPC High Density)
footprint TI-DGN8-1760X1425TP_M (SOP, 8-Leads, Body 3x3mm, Pitch 0.65mm, Thermal Pad 1.76 x 1.425 mm, IPC Low Density)
pins: 1 VIN- (in), 2 VOCM (in), 3 VCC+ (power), 4 VOUT+ (hiz), 5 VOUT- (hiz), 6 VCC- (power), 7 ~{PD} (in), 8 VIN+ (in), 9 EP

## THS4130CDGNRG4
designator U?
Fully Differential Input / Output Low Noise Amplifier with Shutdown, 5 to 30 V, 0 to 70 degC, 8-pin SOP (DGN8), Green (RoHS & no Sb/Br); Manufacturer: Texas Instruments; PartNumber: THS4130CDGNRG4; 2nd Harmonic(dBc): 88; 3rd Harmonic(dBc): 82; @ MHz: 1; BW @ Acl(MHz): 150; Io(Typ)(mA): 85; Iq per channel(Max)(mA): 16; Offset Voltage Drift (+/-)(Max)(uV/Degrees Celsius: 4.5; Settling Time (0.1%)(Typ)(ns): 78; Slew Rate(Typ)(V/us): 52; SubFamily: Fully Differential Amplifier; THD (Fc is 1 MHz)(Typ)(dB): -80; Vio(Max)(mV): 2; Vn at Flatband(Typ)(nV/rtHz): 1.3; Vs(Max)(V): 30; Vs(Min)(V): 5; DatasheetVersion: SLOS318H; PackageVersion: 4073271/F, 05/2011; PackageReference: DGN8-1760X1425TP; PackageDescription: 8-Pin Plastic Small Outline, Body 3 x 3 mm, Pitch 0.65 mm; Supplier 1: Digi-Key; Supplier Part Number 1: THS4130CDGNRG4-ND; Supplier 2: Mouser; Supplier Part Number 2: 595-THS4130CDGNRG4; Eco-Plan: Green (RoHS & no Sb/Br); Number of Channels: 1; Mounting Technology: Surface Mount; Code_JEDEC: MO-187; ComponentLink1Description: Manufacturer URL; ComponentLink1URL: http://www.ti.com/; ComponentLink2Description: Datasheet; ComponentLink2URL: http://www.ti.com/general/docs/lit/getliterature.tsp?genericPartNumber=THS4130&fileType=pdf; ComponentLink3Description: Package Specification; ComponentLink3URL: http://www.ti.com/litv/pdf/mpds046e
footprint TI-DGN8-1760X1425TP_N (SOP, 8-Leads, Body 3x3mm, Pitch 0.65mm, Thermal Pad 1.76x1.425mm, IPC Medium Density)
footprint TI-DGN8-1760X1425TP_L (SOP, 8-Leads, Body 3x3mm, Pitch 0.65mm, Thermal Pad 1.76x1.425mm, IPC High Density)
footprint TI-DGN8-1760X1425TP_M (SOP, 8-Leads, Body 3x3mm, Pitch 0.65mm, Thermal Pad 1.76 x 1.425 mm, IPC Low Density)
pins: 1 VIN- (in), 2 VOCM (in), 3 VCC+ (power), 4 VOUT+ (hiz), 5 VOUT- (hiz), 6 VCC- (power), 7 ~{PD} (in), 8 VIN+ (in), 9 EP

## THS4130ID
designator U?
Fully Differential Input / Output Low Noise Amplifier with Shutdown, 5 to 30 V, -40 to 85 degC, 8-pin SOIC (D8), Green (RoHS & no Sb/Br); Manufacturer: Texas Instruments; PartNumber: THS4130ID; 2nd Harmonic(dBc): 88; 3rd Harmonic(dBc): 82; @ MHz: 1; BW @ Acl(MHz): 150; Io(Typ)(mA): 85; Iq per channel(Max)(mA): 16; Offset Voltage Drift (+/-)(Max)(uV/Degrees Celsius: 4.5; Settling Time (0.1%)(Typ)(ns): 78; Slew Rate(Typ)(V/us): 52; SubFamily: Fully Differential Amplifier; THD (Fc is 1 MHz)(Typ)(dB): -80; Vio(Max)(mV): 2; Vn at Flatband(Typ)(nV/rtHz): 1.3; Vs(Max)(V): 30; Vs(Min)(V): 5; DatasheetVersion: SLOS318H; PackageVersion: 4040047-3/M, 06/2011; PackageReference: D8; PackageDescription: 8-Pin Plastic Small Outline, Body 4.9 x 3.9 mm, Pitch 1.27 mm; Supplier 1: Digi-Key; Supplier Part Number 1: 296-7554-5-ND; Supplier 2: Farnell; Supplier Part Number 2: 1103108; Supplier 3: Newark; Supplier Part Number 3: 24M8257; Supplier 4: Newark; Supplier Part Number 4: 76C6405; Supplier 5: Mouser; Supplier Part Number 5: 595-THS4130ID; Eco-Plan: Green (RoHS & no Sb/Br); Number of Channels: 1; Mounting Technology: Surface Mount; Code_JEDEC: MS-012; ComponentLink1Description: Manufacturer URL; ComponentLink1URL: http://www.ti.com/; ComponentLink2Description: Datasheet; ComponentLink2URL: http://www.ti.com/general/docs/lit/getliterature.tsp?genericPartNumber=THS4130&fileType=pdf; ComponentLink3Description: Package Specification; ComponentLink3URL: http://www.ti.com/litv/pdf/msoi002j
footprint TI-D8_N (SOIC, 8-Leads, Body 4.9x3.9mm, Pitch 1.27mm, IPC Medium Density)
footprint TI-D8_L (SOIC, 8-Leads, Body 4.9x3.9mm, Pitch 1.27mm, IPC High Density)
footprint TI-D8_M (SOIC, 8-Leads, Body 4.9x3.9mm, Pitch 1.27mm, IPC Low Density)
pins: 1 VIN- (in), 2 VOCM (in), 3 VCC+ (power), 4 VOUT+ (hiz), 5 VOUT- (hiz), 6 VCC- (power), 7 ~{PD} (in), 8 VIN+ (in)

## THS4130IDG4
designator U?
Fully Differential Input / Output Low Noise Amplifier with Shutdown, 5 to 30 V, -40 to 85 degC, 8-pin SOIC (D8), Green (RoHS & no Sb/Br); Manufacturer: Texas Instruments; PartNumber: THS4130IDG4; 2nd Harmonic(dBc): 88; 3rd Harmonic(dBc): 82; @ MHz: 1; BW @ Acl(MHz): 150; Io(Typ)(mA): 85; Iq per channel(Max)(mA): 16; Offset Voltage Drift (+/-)(Max)(uV/Degrees Celsius: 4.5; Settling Time (0.1%)(Typ)(ns): 78; Slew Rate(Typ)(V/us): 52; SubFamily: Fully Differential Amplifier; THD (Fc is 1 MHz)(Typ)(dB): -80; Vio(Max)(mV): 2; Vn at Flatband(Typ)(nV/rtHz): 1.3; Vs(Max)(V): 30; Vs(Min)(V): 5; DatasheetVersion: SLOS318H; PackageVersion: 4040047-3/M, 06/2011; PackageReference: D8; PackageDescription: 8-Pin Plastic Small Outline, Body 4.9 x 3.9 mm, Pitch 1.27 mm; Supplier 1: Digi-Key; Supplier Part Number 1: THS4130IDG4-ND; Supplier 2: Mouser; Supplier Part Number 2: 595-THS4130IDG4; Eco-Plan: Green (RoHS & no Sb/Br); Number of Channels: 1; Mounting Technology: Surface Mount; Code_JEDEC: MS-012; ComponentLink1Description: Manufacturer URL; ComponentLink1URL: http://www.ti.com/; ComponentLink2Description: Datasheet; ComponentLink2URL: http://www.ti.com/general/docs/lit/getliterature.tsp?genericPartNumber=THS4130&fileType=pdf; ComponentLink3Description: Package Specification; ComponentLink3URL: http://www.ti.com/litv/pdf/msoi002j
footprint TI-D8_N (SOIC, 8-Leads, Body 4.9x3.9mm, Pitch 1.27mm, IPC Medium Density)
footprint TI-D8_L (SOIC, 8-Leads, Body 4.9x3.9mm, Pitch 1.27mm, IPC High Density)
footprint TI-D8_M (SOIC, 8-Leads, Body 4.9x3.9mm, Pitch 1.27mm, IPC Low Density)
pins: 1 VIN- (in), 2 VOCM (in), 3 VCC+ (power), 4 VOUT+ (hiz), 5 VOUT- (hiz), 6 VCC- (power), 7 ~{PD} (in), 8 VIN+ (in)

## THS4130IDGK
designator U?
Fully Differential Input / Output Low Noise Amplifier with Shutdown, 5 to 30 V, -40 to 85 degC, 8-pin SOP (DGK8), Green (RoHS & no Sb/Br); Manufacturer: Texas Instruments; PartNumber: THS4130IDGK; 2nd Harmonic(dBc): 88; 3rd Harmonic(dBc): 82; @ MHz: 1; BW @ Acl(MHz): 150; Io(Typ)(mA): 85; Iq per channel(Max)(mA): 16; Offset Voltage Drift (+/-)(Max)(uV/Degrees Celsius: 4.5; Settling Time (0.1%)(Typ)(ns): 78; Slew Rate(Typ)(V/us): 52; SubFamily: Fully Differential Amplifier; THD (Fc is 1 MHz)(Typ)(dB): -80; Vio(Max)(mV): 2; Vn at Flatband(Typ)(nV/rtHz): 1.3; Vs(Max)(V): 30; Vs(Min)(V): 5; DatasheetVersion: SLOS318H; PackageVersion: 4073329/E, 05/2006; PackageReference: DGK8; PackageDescription: 8-Pin Thin Small Outline, Body 3 x 3 mm, Pitch 0.65 mm; Supplier 1: Digi-Key; Supplier Part Number 1: 296-18847-5-ND; Supplier 2: Newark; Supplier Part Number 2: 01J0843; Supplier 3: Mouser; Supplier Part Number 3: 595-THS4130IDGK; Eco-Plan: Green (RoHS & no Sb/Br); Number of Channels: 1; Mounting Technology: Surface Mount; Code_JEDEC: MO-187; ComponentLink1Description: Manufacturer URL; ComponentLink1URL: http://www.ti.com/; ComponentLink2Description: Datasheet; ComponentLink2URL: http://www.ti.com/general/docs/lit/getliterature.tsp?genericPartNumber=THS4130&fileType=pdf; ComponentLink3Description: Package Specification; ComponentLink3URL: http://www.ti.com/litv/pdf/mpds028d
footprint TI-DGK8_N (SOP, 8-Leads, Body 3x3mm, Pitch 0.65mm, IPC Medium Density)
footprint TI-DGK8_L (SOP, 8-Leads, Body 3x3mm, Pitch 0.65mm, IPC High Density)
footprint TI-DGK8_M (SOP, 8-Leads, Body 3x3mm, Pitch 0.65mm, IPC Low Density)
pins: 1 VIN- (in), 2 VOCM (in), 3 VCC+ (power), 4 VOUT+ (hiz), 5 VOUT- (hiz), 6 VCC- (power), 7 ~{PD} (in), 8 VIN+ (in)

## THS4130IDGKG4
designator U?
Fully Differential Input / Output Low Noise Amplifier with Shutdown, 5 to 30 V, -40 to 85 degC, 8-pin SOP (DGK8), Green (RoHS & no Sb/Br); Manufacturer: Texas Instruments; PartNumber: THS4130IDGKG4; 2nd Harmonic(dBc): 88; 3rd Harmonic(dBc): 82; @ MHz: 1; BW @ Acl(MHz): 150; Io(Typ)(mA): 85; Iq per channel(Max)(mA): 16; Offset Voltage Drift (+/-)(Max)(uV/Degrees Celsius: 4.5; Settling Time (0.1%)(Typ)(ns): 78; Slew Rate(Typ)(V/us): 52; SubFamily: Fully Differential Amplifier; THD (Fc is 1 MHz)(Typ)(dB): -80; Vio(Max)(mV): 2; Vn at Flatband(Typ)(nV/rtHz): 1.3; Vs(Max)(V): 30; Vs(Min)(V): 5; DatasheetVersion: SLOS318H; PackageVersion: 4073329/E, 05/2006; PackageReference: DGK8; PackageDescription: 8-Pin Thin Small Outline, Body 3 x 3 mm, Pitch 0.65 mm; Supplier 1: Digi-Key; Supplier Part Number 1: THS4130IDGKG4-ND; Supplier 2: Mouser; Supplier Part Number 2: 595-THS4130IDGKG4; Eco-Plan: Green (RoHS & no Sb/Br); Number of Channels: 1; Mounting Technology: Surface Mount; Code_JEDEC: MO-187; ComponentLink1Description: Manufacturer URL; ComponentLink1URL: http://www.ti.com/; ComponentLink2Description: Datasheet; ComponentLink2URL: http://www.ti.com/general/docs/lit/getliterature.tsp?genericPartNumber=THS4130&fileType=pdf; ComponentLink3Description: Package Specification; ComponentLink3URL: http://www.ti.com/litv/pdf/mpds028d
footprint TI-DGK8_N (SOP, 8-Leads, Body 3x3mm, Pitch 0.65mm, IPC Medium Density)
footprint TI-DGK8_L (SOP, 8-Leads, Body 3x3mm, Pitch 0.65mm, IPC High Density)
footprint TI-DGK8_M (SOP, 8-Leads, Body 3x3mm, Pitch 0.65mm, IPC Low Density)
pins: 1 VIN- (in), 2 VOCM (in), 3 VCC+ (power), 4 VOUT+ (hiz), 5 VOUT- (hiz), 6 VCC- (power), 7 ~{PD} (in), 8 VIN+ (in)

## THS4130IDGKR
designator U?
Fully Differential Input / Output Low Noise Amplifier with Shutdown, 5 to 30 V, -40 to 85 degC, 8-pin SOP (DGK8), Green (RoHS & no Sb/Br); Manufacturer: Texas Instruments; PartNumber: THS4130IDGKR; 2nd Harmonic(dBc): 88; 3rd Harmonic(dBc): 82; @ MHz: 1; BW @ Acl(MHz): 150; Io(Typ)(mA): 85; Iq per channel(Max)(mA): 16; Offset Voltage Drift (+/-)(Max)(uV/Degrees Celsius: 4.5; Settling Time (0.1%)(Typ)(ns): 78; Slew Rate(Typ)(V/us): 52; SubFamily: Fully Differential Amplifier; THD (Fc is 1 MHz)(Typ)(dB): -80; Vio(Max)(mV): 2; Vn at Flatband(Typ)(nV/rtHz): 1.3; Vs(Max)(V): 30; Vs(Min)(V): 5; DatasheetVersion: SLOS318H; PackageVersion: 4073329/E, 05/2006; PackageReference: DGK8; PackageDescription: 8-Pin Thin Small Outline, Body 3 x 3 mm, Pitch 0.65 mm; Supplier 1: Digi-Key; Supplier Part Number 1: THS4130IDGKR-ND; Supplier 2: Mouser; Supplier Part Number 2: 595-THS4130IDGKR; Eco-Plan: Green (RoHS & no Sb/Br); Number of Channels: 1; Mounting Technology: Surface Mount; Code_JEDEC: MO-187; ComponentLink1Description: Manufacturer URL; ComponentLink1URL: http://www.ti.com/; ComponentLink2Description: Datasheet; ComponentLink2URL: http://www.ti.com/general/docs/lit/getliterature.tsp?genericPartNumber=THS4130&fileType=pdf; ComponentLink3Description: Package Specification; ComponentLink3URL: http://www.ti.com/litv/pdf/mpds028d
footprint TI-DGK8_N (SOP, 8-Leads, Body 3x3mm, Pitch 0.65mm, IPC Medium Density)
footprint TI-DGK8_L (SOP, 8-Leads, Body 3x3mm, Pitch 0.65mm, IPC High Density)
footprint TI-DGK8_M (SOP, 8-Leads, Body 3x3mm, Pitch 0.65mm, IPC Low Density)
pins: 1 VIN- (in), 2 VOCM (in), 3 VCC+ (power), 4 VOUT+ (hiz), 5 VOUT- (hiz), 6 VCC- (power), 7 ~{PD} (in), 8 VIN+ (in)

## THS4130IDGKRG4
designator U?
Fully Differential Input / Output Low Noise Amplifier with Shutdown, 5 to 30 V, -40 to 85 degC, 8-pin SOP (DGK8), Green (RoHS & no Sb/Br); Manufacturer: Texas Instruments; PartNumber: THS4130IDGKRG4; 2nd Harmonic(dBc): 88; 3rd Harmonic(dBc): 82; @ MHz: 1; BW @ Acl(MHz): 150; Io(Typ)(mA): 85; Iq per channel(Max)(mA): 16; Offset Voltage Drift (+/-)(Max)(uV/Degrees Celsius: 4.5; Settling Time (0.1%)(Typ)(ns): 78; Slew Rate(Typ)(V/us): 52; SubFamily: Fully Differential Amplifier; THD (Fc is 1 MHz)(Typ)(dB): -80; Vio(Max)(mV): 2; Vn at Flatband(Typ)(nV/rtHz): 1.3; Vs(Max)(V): 30; Vs(Min)(V): 5; DatasheetVersion: SLOS318H; PackageVersion: 4073329/E, 05/2006; PackageReference: DGK8; PackageDescription: 8-Pin Thin Small Outline, Body 3 x 3 mm, Pitch 0.65 mm; Supplier 1: Digi-Key; Supplier Part Number 1: THS4130IDGKRG4-ND; Supplier 2: Mouser; Supplier Part Number 2: 595-THS4130IDGKRG4; Eco-Plan: Green (RoHS & no Sb/Br); Number of Channels: 1; Mounting Technology: Surface Mount; Code_JEDEC: MO-187; ComponentLink1Description: Manufacturer URL; ComponentLink1URL: http://www.ti.com/; ComponentLink2Description: Datasheet; ComponentLink2URL: http://www.ti.com/general/docs/lit/getliterature.tsp?genericPartNumber=THS4130&fileType=pdf; ComponentLink3Description: Package Specification; ComponentLink3URL: http://www.ti.com/litv/pdf/mpds028d
footprint TI-DGK8_N (SOP, 8-Leads, Body 3x3mm, Pitch 0.65mm, IPC Medium Density)
footprint TI-DGK8_L (SOP, 8-Leads, Body 3x3mm, Pitch 0.65mm, IPC High Density)
footprint TI-DGK8_M (SOP, 8-Leads, Body 3x3mm, Pitch 0.65mm, IPC Low Density)
pins: 1 VIN- (in), 2 VOCM (in), 3 VCC+ (power), 4 VOUT+ (hiz), 5 VOUT- (hiz), 6 VCC- (power), 7 ~{PD} (in), 8 VIN+ (in)

## THS4130IDGN
designator U?
Fully Differential Input / Output Low Noise Amplifier with Shutdown, 5 to 30 V, -40 to 85 degC, 8-pin SOP (DGN8), Green (RoHS & no Sb/Br); Manufacturer: Texas Instruments; PartNumber: THS4130IDGN; 2nd Harmonic(dBc): 88; 3rd Harmonic(dBc): 82; @ MHz: 1; BW @ Acl(MHz): 150; Io(Typ)(mA): 85; Iq per channel(Max)(mA): 16; Offset Voltage Drift (+/-)(Max)(uV/Degrees Celsius: 4.5; Settling Time (0.1%)(Typ)(ns): 78; Slew Rate(Typ)(V/us): 52; SubFamily: Fully Differential Amplifier; THD (Fc is 1 MHz)(Typ)(dB): -80; Vio(Max)(mV): 2; Vn at Flatband(Typ)(nV/rtHz): 1.3; Vs(Max)(V): 30; Vs(Min)(V): 5; DatasheetVersion: SLOS318H; PackageVersion: 4073271/F, 05/2011; PackageReference: DGN8-1760X1425TP; PackageDescription: 8-Pin Plastic Small Outline, Body 3 x 3 mm, Pitch 0.65 mm; Supplier 1: Digi-Key; Supplier Part Number 1: 296-26680-5-ND; Supplier 2: Newark; Supplier Part Number 2: 76C6406; Supplier 3: Mouser; Supplier Part Number 3: 595-THS4130IDGN; Eco-Plan: Green (RoHS & no Sb/Br); Number of Channels: 1; Mounting Technology: Surface Mount; Code_JEDEC: MO-187; ComponentLink1Description: Manufacturer URL; ComponentLink1URL: http://www.ti.com/; ComponentLink2Description: Datasheet; ComponentLink2URL: http://www.ti.com/general/docs/lit/getliterature.tsp?genericPartNumber=THS4130&fileType=pdf; ComponentLink3Description: Package Specification; ComponentLink3URL: http://www.ti.com/litv/pdf/mpds046e
footprint TI-DGN8-1760X1425TP_N (SOP, 8-Leads, Body 3x3mm, Pitch 0.65mm, Thermal Pad 1.76x1.425mm, IPC Medium Density)
footprint TI-DGN8-1760X1425TP_L (SOP, 8-Leads, Body 3x3mm, Pitch 0.65mm, Thermal Pad 1.76x1.425mm, IPC High Density)
footprint TI-DGN8-1760X1425TP_M (SOP, 8-Leads, Body 3x3mm, Pitch 0.65mm, Thermal Pad 1.76 x 1.425 mm, IPC Low Density)
pins: 1 VIN- (in), 2 VOCM (in), 3 VCC+ (power), 4 VOUT+ (hiz), 5 VOUT- (hiz), 6 VCC- (power), 7 ~{PD} (in), 8 VIN+ (in), 9 EP

## THS4130IDGNG4
designator U?
Fully Differential Input / Output Low Noise Amplifier with Shutdown, 5 to 30 V, -40 to 85 degC, 8-pin SOP (DGN8), Green (RoHS & no Sb/Br); Manufacturer: Texas Instruments; PartNumber: THS4130IDGNG4; 2nd Harmonic(dBc): 88; 3rd Harmonic(dBc): 82; @ MHz: 1; BW @ Acl(MHz): 150; Io(Typ)(mA): 85; Iq per channel(Max)(mA): 16; Offset Voltage Drift (+/-)(Max)(uV/Degrees Celsius: 4.5; Settling Time (0.1%)(Typ)(ns): 78; Slew Rate(Typ)(V/us): 52; SubFamily: Fully Differential Amplifier; THD (Fc is 1 MHz)(Typ)(dB): -80; Vio(Max)(mV): 2; Vn at Flatband(Typ)(nV/rtHz): 1.3; Vs(Max)(V): 30; Vs(Min)(V): 5; DatasheetVersion: SLOS318H; PackageVersion: 4073271/F, 05/2011; PackageReference: DGN8-1760X1425TP; PackageDescription: 8-Pin Plastic Small Outline, Body 3 x 3 mm, Pitch 0.65 mm; Supplier 1: Digi-Key; Supplier Part Number 1: THS4130IDGNG4-ND; Supplier 2: Newark; Supplier Part Number 2: 70K5469; Supplier 3: Mouser; Supplier Part Number 3: 595-THS4130IDGNG4; Eco-Plan: Green (RoHS & no Sb/Br); Number of Channels: 1; Mounting Technology: Surface Mount; Code_JEDEC: MO-187; ComponentLink1Description: Manufacturer URL; ComponentLink1URL: http://www.ti.com/; ComponentLink2Description: Datasheet; ComponentLink2URL: http://www.ti.com/general/docs/lit/getliterature.tsp?genericPartNumber=THS4130&fileType=pdf; ComponentLink3Description: Package Specification; ComponentLink3URL: http://www.ti.com/litv/pdf/mpds046e
footprint TI-DGN8-1760X1425TP_N (SOP, 8-Leads, Body 3x3mm, Pitch 0.65mm, Thermal Pad 1.76x1.425mm, IPC Medium Density)
footprint TI-DGN8-1760X1425TP_L (SOP, 8-Leads, Body 3x3mm, Pitch 0.65mm, Thermal Pad 1.76x1.425mm, IPC High Density)
footprint TI-DGN8-1760X1425TP_M (SOP, 8-Leads, Body 3x3mm, Pitch 0.65mm, Thermal Pad 1.76 x 1.425 mm, IPC Low Density)
pins: 1 VIN- (in), 2 VOCM (in), 3 VCC+ (power), 4 VOUT+ (hiz), 5 VOUT- (hiz), 6 VCC- (power), 7 ~{PD} (in), 8 VIN+ (in), 9 EP

## THS4130IDGNR
designator U?
Fully Differential Input / Output Low Noise Amplifier with Shutdown, 5 to 30 V, -40 to 85 degC, 8-pin SOP (DGN8), Green (RoHS & no Sb/Br); Manufacturer: Texas Instruments; PartNumber: THS4130IDGNR; 2nd Harmonic(dBc): 88; 3rd Harmonic(dBc): 82; @ MHz: 1; BW @ Acl(MHz): 150; Io(Typ)(mA): 85; Iq per channel(Max)(mA): 16; Offset Voltage Drift (+/-)(Max)(uV/Degrees Celsius: 4.5; Settling Time (0.1%)(Typ)(ns): 78; Slew Rate(Typ)(V/us): 52; SubFamily: Fully Differential Amplifier; THD (Fc is 1 MHz)(Typ)(dB): -80; Vio(Max)(mV): 2; Vn at Flatband(Typ)(nV/rtHz): 1.3; Vs(Max)(V): 30; Vs(Min)(V): 5; DatasheetVersion: SLOS318H; PackageVersion: 4073271/F, 05/2011; PackageReference: DGN8-1760X1425TP; PackageDescription: 8-Pin Plastic Small Outline, Body 3 x 3 mm, Pitch 0.65 mm; Supplier 1: Digi-Key; Supplier Part Number 1: 296-10044-2-ND; Supplier 2: Digi-Key; Supplier Part Number 2: 296-10044-1-ND; Supplier 3: Digi-Key; Supplier Part Number 3: 296-10044-6-ND; Supplier 4: Newark; Supplier Part Number 4: 76C6407; Supplier 5: Newark; Supplier Part Number 5: 28X4462; Supplier 6: Mouser; Supplier Part Number 6: 595-THS4130IDGNR; Eco-Plan: Green (RoHS & no Sb/Br); Number of Channels: 1; Mounting Technology: Surface Mount; Code_JEDEC: MO-187; ComponentLink1Description: Manufacturer URL; ComponentLink1URL: http://www.ti.com/; ComponentLink2Description: Datasheet; ComponentLink2URL: http://www.ti.com/general/docs/lit/getliterature.tsp?genericPartNumber=THS4130&fileType=pdf; ComponentLink3Description: Package Specification; ComponentLink3URL: http://www.ti.com/litv/pdf/mpds046e
footprint TI-DGN8-1760X1425TP_N (SOP, 8-Leads, Body 3x3mm, Pitch 0.65mm, Thermal Pad 1.76x1.425mm, IPC Medium Density)
footprint TI-DGN8-1760X1425TP_L (SOP, 8-Leads, Body 3x3mm, Pitch 0.65mm, Thermal Pad 1.76x1.425mm, IPC High Density)
footprint TI-DGN8-1760X1425TP_M (SOP, 8-Leads, Body 3x3mm, Pitch 0.65mm, Thermal Pad 1.76 x 1.425 mm, IPC Low Density)
pins: 1 VIN- (in), 2 VOCM (in), 3 VCC+ (power), 4 VOUT+ (hiz), 5 VOUT- (hiz), 6 VCC- (power), 7 ~{PD} (in), 8 VIN+ (in), 9 EP

## THS4130IDGNRG4
designator U?
Fully Differential Input / Output Low Noise Amplifier with Shutdown, 5 to 30 V, -40 to 85 degC, 8-pin SOP (DGN8), Green (RoHS & no Sb/Br); Manufacturer: Texas Instruments; PartNumber: THS4130IDGNRG4; 2nd Harmonic(dBc): 88; 3rd Harmonic(dBc): 82; @ MHz: 1; BW @ Acl(MHz): 150; Io(Typ)(mA): 85; Iq per channel(Max)(mA): 16; Offset Voltage Drift (+/-)(Max)(uV/Degrees Celsius: 4.5; Settling Time (0.1%)(Typ)(ns): 78; Slew Rate(Typ)(V/us): 52; SubFamily: Fully Differential Amplifier; THD (Fc is 1 MHz)(Typ)(dB): -80; Vio(Max)(mV): 2; Vn at Flatband(Typ)(nV/rtHz): 1.3; Vs(Max)(V): 30; Vs(Min)(V): 5; DatasheetVersion: SLOS318H; PackageVersion: 4073271/F, 05/2011; PackageReference: DGN8-1760X1425TP; PackageDescription: 8-Pin Plastic Small Outline, Body 3 x 3 mm, Pitch 0.65 mm; Supplier 1: Digi-Key; Supplier Part Number 1: THS4130IDGNRG4-ND; Supplier 2: Newark; Supplier Part Number 2: 71J7937; Supplier 3: Mouser; Supplier Part Number 3: 595-THS4130IDGNRG4; Eco-Plan: Green (RoHS & no Sb/Br); Number of Channels: 1; Mounting Technology: Surface Mount; Code_JEDEC: MO-187; ComponentLink1Description: Manufacturer URL; ComponentLink1URL: http://www.ti.com/; ComponentLink2Description: Datasheet; ComponentLink2URL: http://www.ti.com/general/docs/lit/getliterature.tsp?genericPartNumber=THS4130&fileType=pdf; ComponentLink3Description: Package Specification; ComponentLink3URL: http://www.ti.com/litv/pdf/mpds046e
footprint TI-DGN8-1760X1425TP_N (SOP, 8-Leads, Body 3x3mm, Pitch 0.65mm, Thermal Pad 1.76x1.425mm, IPC Medium Density)
footprint TI-DGN8-1760X1425TP_L (SOP, 8-Leads, Body 3x3mm, Pitch 0.65mm, Thermal Pad 1.76x1.425mm, IPC High Density)
footprint TI-DGN8-1760X1425TP_M (SOP, 8-Leads, Body 3x3mm, Pitch 0.65mm, Thermal Pad 1.76 x 1.425 mm, IPC Low Density)
pins: 1 VIN- (in), 2 VOCM (in), 3 VCC+ (power), 4 VOUT+ (hiz), 5 VOUT- (hiz), 6 VCC- (power), 7 ~{PD} (in), 8 VIN+ (in), 9 EP